# Altium footprint library Miner-8Chips.PcbLib: 43 footprints (part 1 of 3)
Each footprint in its own frame and in the unit in brackets; x right, y up, seen from the top. Pads: shape width x height; smd on the part's side, far side on the other; paste and mask are expansions set on the pad; w line width, h text height; cw(c..) or ccw(c..) is an arc to the next point about the centre after c.
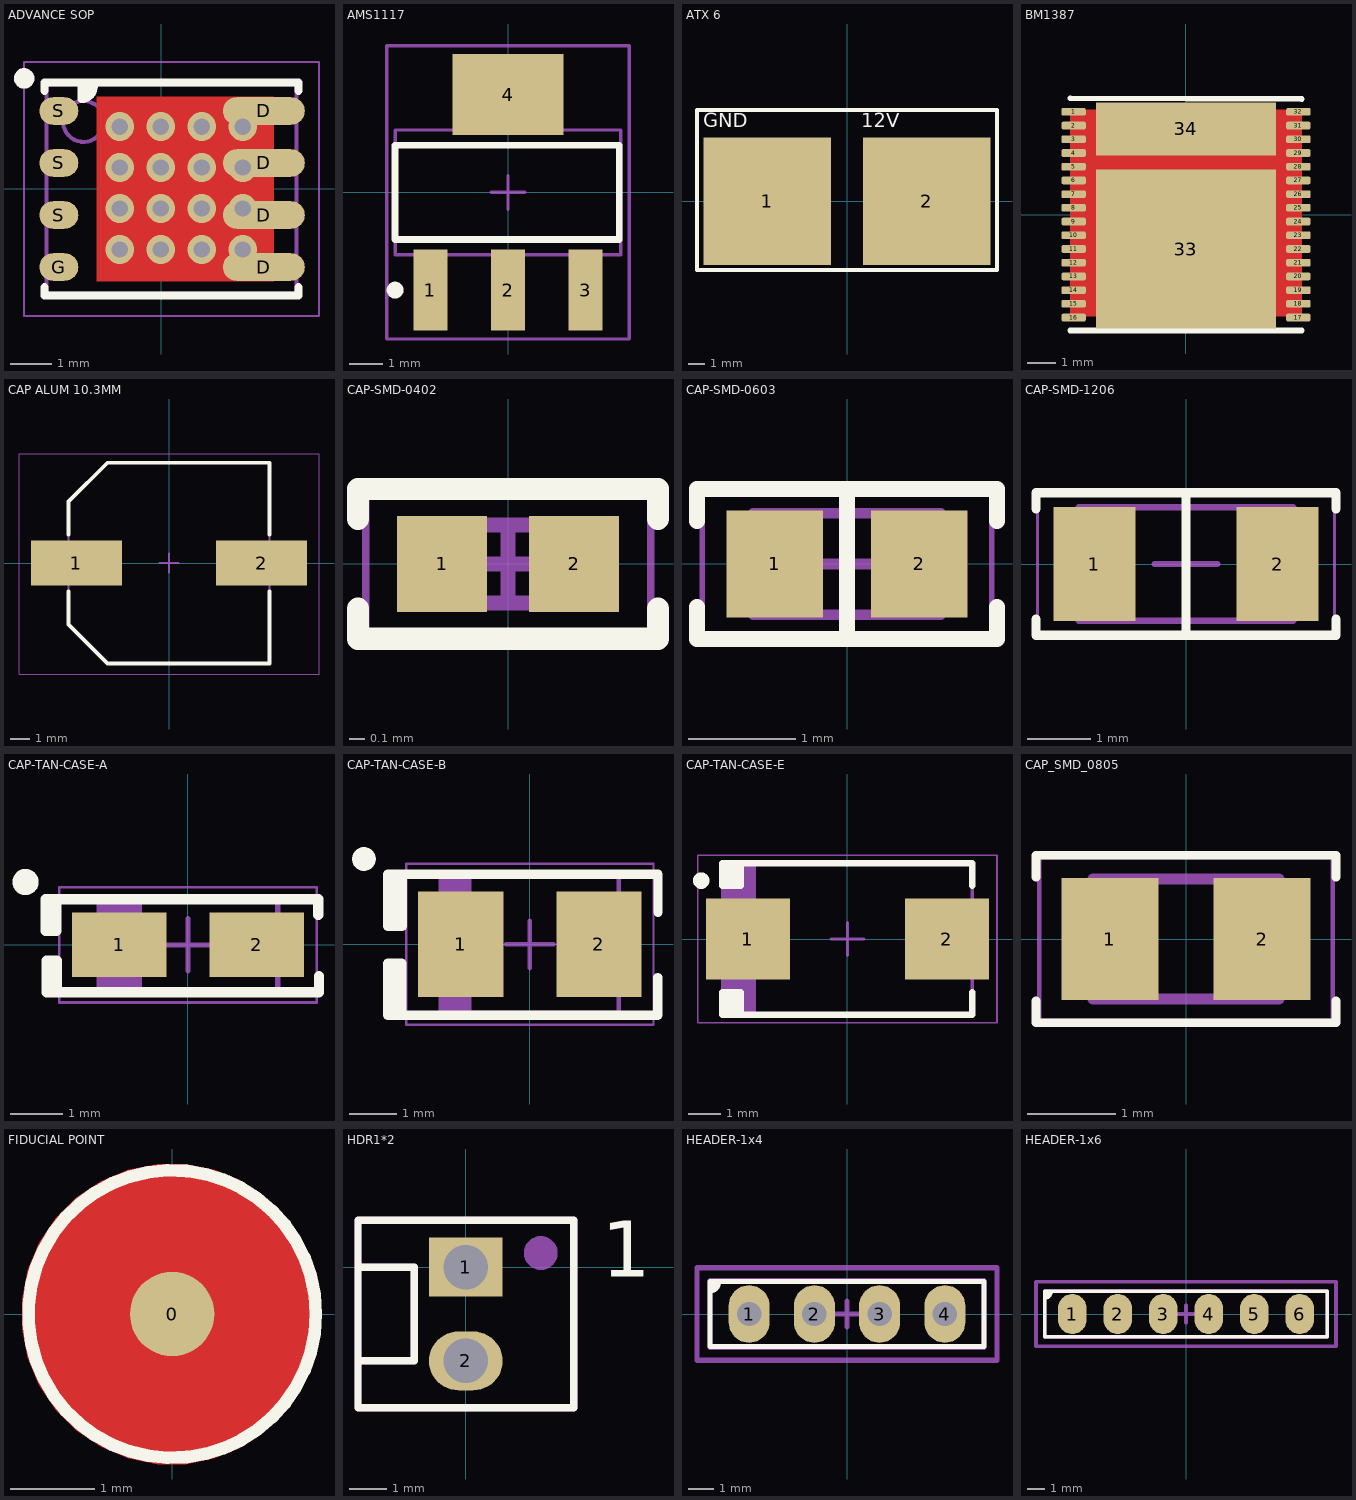
[diagram p0: the footprints below, top view; thin cyan lines are the x and y axes]

## ADVANCE SOP [mm]
pads (8):
  oval 2x0.675 smd: D(2.503,-1.905) D(2.503,-0.635) D(2.503,0.635) D(2.503,1.905)
  oval 0.95x0.675 smd: G(-2.503,-1.905) S(-2.503,-0.635) S(-2.503,0.635) S(-2.503,1.905)
via -1.016,-1.476 diameter 0.7 hole 0.4
via -0.016,-1.476 diameter 0.7 hole 0.4
via 0.984,-1.476 diameter 0.7 hole 0.4
via 1.984,-1.476 diameter 0.7 hole 0.4
via -1.016,-0.476 diameter 0.7 hole 0.4
via -0.016,-0.476 diameter 0.7 hole 0.4
via 0.984,-0.476 diameter 0.7 hole 0.4
via 1.984,-0.476 diameter 0.7 hole 0.4
via -1.016,0.524 diameter 0.7 hole 0.4
via -0.016,0.524 diameter 0.7 hole 0.4
via 0.984,0.524 diameter 0.7 hole 0.4
via 1.984,0.524 diameter 0.7 hole 0.4
via -1.016,1.524 diameter 0.7 hole 0.4
via -0.016,1.524 diameter 0.7 hole 0.4
via 0.984,1.524 diameter 0.7 hole 0.4
via 1.984,1.524 diameter 0.7 hole 0.4
Top Layer:
  region: -1.575,2.25 2.75,2.25 2.75,-2.25 -1.575,-2.25
Top Overlay:
  circle w0.25: c-3.35,2.7 r0.125
  region: -1.95,2.6 -1.95,2.2 -1.891,2.2 -1.78,2.246 -1.696,2.33 -1.65,2.44 -1.65,2.5 -1.65,2.6
  lines w0.2: -2.85,-2.4 -2.85,-2.6 3.35,-2.6 3.35,-2.4 ; -2.85,2.4 -2.85,2.6 3.35,2.6 3.35,2.4 ; -1.95,2.6 -1.95,2.2 ccw(c-1.95,2.5) -1.65,2.5 -1.65,2.6
Mechanical 13:
  circle w0.1: c-1.9,1.65 r0.5
  lines w0.1: -2.8,-2.55 -2.8,2.55 3.3,2.55 3.3,-2.55 -2.8,-2.55
Mechanical 15:
  lines w0.05: -3.35,-3.1 -3.35,3.1 3.85,3.1 3.85,-3.1 -3.35,-3.1
  lines w0.1: -0.25,0 0.75,0 ; 0.25,-0.5 0.25,0.5
3D body: height 1.05, standoff 0.01, extent -2.8,-2.55 3.3,2.55

## AMS1117 [mm]
pads (4):
  rect 1x2.4 smd: 1(-2.3,-2.9) 2(0,-2.9) 3(2.3,-2.9)
  rect 3.3x2.4 smd: 4(0,2.9)
Top Overlay:
  circle w0.25: c-3.35,-2.9 r0.125
  lines w0.2: -3.35,-1.4 3.302,-1.4 3.302,1.4 -3.35,1.4 -3.35,-1.4
Mechanical 13:
  lines w0.1: -3.35,-1.85 3.35,-1.85 3.35,1.85 -3.35,1.85 -3.35,-1.85
Mechanical 15:
  lines w0.1: -0.5,0 0.5,0 ; 0,-0.5 0,0.5 ; -3.6,-4.35 3.6,-4.35 3.6,4.35 -3.6,4.35 -3.6,-4.35
3D body "TO-223.STEP": height 1.64, standoff -0.04, extent -3.242,-3.49 3.242,3.49

## ATX 6 [mm]
pads (2):
  rect 8x8 smd: 1(-5,0) 2(5,0)
Top Overlay:
  lines w0.254: -9.398,-4.318 9.398,-4.318 9.398,5.715 -9.398,5.715 -9.398,-4.318
  text "12V" at 0.889,4.318 h1.52
  text "GND" at -9.017,4.335 h1.52

## BM1387 [mm]
pads (34):
  rrect50% 0.86x0.27 smd: 1(-3.935,3.6) 2(-3.935,3.12) 3(-3.935,2.64) 4(-3.935,2.16) 5(-3.935,1.68) 6(-3.935,1.2) 7(-3.935,0.72) 8(-3.935,0.24) 9(-3.935,-0.24) 10(-3.935,-0.72) 11(-3.935,-1.2) 12(-3.935,-1.68) 13(-3.935,-2.16) 14(-3.935,-2.64) 15(-3.935,-3.12) 16(-3.935,-3.6) 17(3.935,-3.6) 18(3.935,-3.12) 19(3.935,-2.64) 20(3.935,-2.16) 21(3.935,-1.68) 22(3.935,-1.2) 23(3.935,-0.72) 24(3.935,-0.24) 25(3.935,0.24) 26(3.935,0.72) 27(3.935,1.2) 28(3.935,1.68) 29(3.935,2.16) 30(3.935,2.64) 31(3.935,3.12) 32(3.935,3.6)
  rect 6.3x5.55 smd: 33(0,-1.2)
  rect 6.3x1.85 smd: 34(0,3)
Top Layer:
  pour cut-out: -4.05,3.697 -4.05,-3.556 4.05,-3.556 4.05,3.669
Top Overlay:
  lines w0.2: -4.05,-4.05 4.05,-4.05 ; -4.05,4.078 4.05,4.05
3D body: height 0.2, standoff 0, extent -4.063,-4.113 4.091,4.142

## CAP ALUM 10.3MM [mm] "Aluminum Electrolytic Capacitor, Body 10.30x10.30x10.50mm, IPC Low Density"
height 10.5
pads (2):
  rect 4.65x2.3 smd: 1(-4.75,0) 2(4.75,0)
Top Overlay:
  lines w0.2: -5.15,-1.45 -5.15,-3.15 -3.15,-5.15 5.15,-5.15 5.15,-1.45 ; -5.15,1.45 -5.15,3.15 -3.15,5.15 5.15,5.15 5.15,1.45
Mechanical 13:
  lines w0.1: -5.15,-3.15 -5.15,3.15 -3.15,5.15 5.15,5.15 5.15,-5.15 -3.15,-5.15 -5.15,-3.15
Mechanical 15:
  lines w0.05: -7.7,-5.7 7.7,-5.7 7.7,5.6 -7.7,5.6 -7.7,-5.7
  lines w0.1: -0.5,0 0.5,0 ; 0,-0.5 0,0.5
3D body "CAP ALUM 10_3mm.STEP": height 10.5, standoff 0, extent -5.8,-5.15 5.8,5.15

## CAP-SMD-0402 [mm]
pads (2):
  rect 0.6x0.64 smd: 1(-0.44,0) 2(0.44,0)
Top Overlay:
  lines w0.15: -1,-0.3 -1,-0.5 1,-0.5 1,-0.3 ; -1,0.3 -1,0.5 1,0.5 1,0.3
Mechanical 13:
  lines w0.1: -0.515,-0.26 0.515,-0.26 0.515,0.26 -0.515,0.26 -0.515,-0.26
Mechanical 15:
  lines w0.05: -0.95,-0.5 0.95,-0.5 0.95,0.5 -0.95,0.5 -0.95,-0.5
  lines w0.1: -0.26,0 0.26,0 ; 0,-0.26 0,0.26
3D body "0402 cap.STEP": height 0.52, standoff 0, extent -0.5,-0.262 0.5,0.262

## CAP-SMD-0603 [mm]
pads (2):
  rect 0.9x1 smd: 1(-0.675,0) 2(0.675,0)
Top Overlay:
  lines w0.15: -1.4,-0.4 -1.4,-0.7 1.4,-0.7 1.4,-0.4 ; -1.4,0.4 -1.4,0.7 1.4,0.7 1.4,0.4 ; 0,-0.7 0,0.7
Mechanical 13:
  lines w0.1: -0.875,-0.475 -0.875,0.475 0.875,0.475 0.875,-0.475 -0.875,-0.475
Mechanical 15:
  lines w0.05: -1.35,-0.75 -1.35,0.75 1.35,0.75 1.35,-0.75 -1.35,-0.75
  lines w0.1: -0.475,0 0.475,0 ; 0,-0.475 0,0.475
3D body "0603 cap.STEP": height 0.82, standoff 0, extent -0.8,-0.412 0.8,0.412

## CAP-SMD-1206 [mm]
pads (2):
  rect 1.3x1.8 smd: 1(-1.45,0) 2(1.45,0)
Top Overlay:
  lines w0.15: -2.375,-0.875 -2.375,-1.125 2.375,-1.125 2.375,-0.875 ; -2.375,0.875 -2.375,1.125 2.375,1.125 2.375,0.875 ; 0,-1.125 0,1.125
Mechanical 13:
  lines w0.1: -1.7,-0.9 -1.7,0.9 1.7,0.9 1.7,-0.9 -1.7,-0.9
Mechanical 15:
  lines w0.05: -2.35,-1.15 -2.35,1.15 2.35,1.15 2.35,-1.15 -2.35,-1.15
  lines w0.1: -0.5,0 0.5,0 ; 0,-0.5 0,0.5
3D body "1206 cap.STEP": height 1.62, standoff 0, extent -1.6,-0.812 1.6,0.812

## CAP-TAN-CASE-A [mm]
pads (2):
  rect 1.8x1.23 smd: 1(-1.31,0) 2(1.31,0)
Top Overlay:
  circle w0.25: c-3.1,1.2 r0.125
  rectangle: -2.717,0.273 -2.567,0.873
  rectangle: -2.7,-0.9 -2.55,-0.3
  lines w0.2: -2.517,0.873 -2.517,0.273 -2.717,0.273 -2.717,0.873 2.483,0.873 2.483,0.573 ; -2.5,-0.9 -2.5,-0.3 -2.7,-0.3 -2.7,-0.9 2.5,-0.9 2.5,-0.6
Mechanical 13:
  rectangle: -1.715,-0.85 -0.875,0.85
  lines w0.1: -1.7,-0.85 -1.7,0.85 1.715,0.85 1.715,-0.85 -1.7,-0.85
Mechanical 15:
  lines w0.05: -2.46,-1.1 2.46,-1.1 2.46,1.1 -2.46,1.1 -2.46,-1.1
  lines w0.1: -0.5,0 0.5,0 ; 0,-0.5 0,0.5
3D body "CAP TANT - 1206 - 1.7MM.step": height 1.7, standoff 0, extent -1.715,-0.85 1.715,0.85

## CAP-TAN-CASE-B [mm]
pads (2):
  rect 1.8x2.23 smd: 1(-1.46,0) 2(1.46,0)
Top Overlay:
  circle w0.25: c-3.5,1.8 r0.125
  region: -2.995,0.38 -2.995,1.48 -2.695,1.48 -2.695,0.38
  region: -3,-0.4 -3,-1.5 -2.7,-1.5 -2.7,-0.4
  lines w0.2: 2.7,-0.7 2.7,-1.5 -2.7,-1.5 ; 2.705,0.68 2.705,1.48 -2.695,1.48 ; -2.7,-1.5 -3,-1.5 -3,-0.4 -2.7,-0.4 -2.7,-1.5 ; -2.695,1.48 -2.995,1.48 -2.995,0.38 -2.695,0.38 -2.695,1.48
Mechanical 13:
  rectangle: -1.875,-1.45 -1.225,1.45
  lines w0.1: -1.875,-1.45 -1.875,1.45 1.875,1.45 1.875,-1.45 -1.875,-1.45
Mechanical 15:
  lines w0.05: -2.61,-1.7 -2.61,1.7 2.61,1.7 2.61,-1.7 -2.61,-1.7
  lines w0.1: -0.5,0 0.5,0 ; 0,-0.5 0,0.5
3D body "CAP TANT - 1411 - 2.0MM.step": height 2, standoff 0, extent -1.865,-1.45 1.865,1.45

## CAP-TAN-CASE-E [mm]
pads (2):
  rect 2.55x2.45 smd: 1(-3.025,0) 2(3.025,0)
Top Overlay:
  circle w0.25: c-4.45,1.775 r0.125
  rectangle: -3.8,1.625 -3.25,2.3
  rectangle: -3.8,-2.3 -3.25,-1.625
  lines w0.2: -3.25,-2.3 -3.25,-1.625 -3.8,-1.625 -3.8,-2.3 3.8,-2.3 3.8,-1.625 ; -3.25,2.3 -3.25,1.625 -3.8,1.625 -3.8,2.3 3.8,2.3 3.8,1.625
Mechanical 13:
  rectangle: -3.8,-2.3 -2.778,2.3
  lines w0.1: -3.8,-2.3 3.8,-2.3 3.8,2.3 -3.8,2.3 -3.8,-2.3
Mechanical 15:
  lines w0.05: -4.55,-2.55 4.55,-2.55 4.55,2.55 -4.55,2.55 -4.55,-2.55
  lines w0.1: -0.5,0 0.5,0 ; 0,-0.5 0,0.5
3D body "User Library-Case Code KEMET V.STEP": height 2, standoff 0, extent -3.81,-2.3 3.79,2.3

## CAP_SMD_0805 [mm]
pads (2):
  rect 1.1x1.38 smd: 1(-0.863,0) 2(0.863,0)
Top Overlay:
  lines w0.1: -1.7,-0.7 -1.7,-0.95 1.7,-0.95 1.7,-0.7 ; -1.7,0.7 -1.7,0.95 1.7,0.95 1.7,0.7
Mechanical 13:
  lines w0.127: -1.05,-0.68 -1.05,0.68 1.05,0.68 1.05,-0.68 -1.05,-0.68
Mechanical 15:
  lines w0.05: -1.665,-0.925 -1.665,0.925 1.665,0.925 1.665,-0.925 -1.665,-0.925
3D body "CL21A226MQQNNNG.STEP": height 1.22, standoff -0.03, extent -1,-0.675 1,0.675

## FIDUCIAL POINT [mm]
pads (1):
  round 1 smd mask+1: 0(0,0)
Top Layer:
  circle w0.15: c0,0 r1.571
  pour cut-out: 0,1.778 -0.175,1.778 -0.519,1.71 -0.842,1.576 -1.133,1.381 -1.381,1.133 -1.576,0.842 -1.71,0.519 -1.778,0.175 -1.778,0 -1.778,-0.175 -1.71,-0.519 -1.576,-0.842 -1.381,-1.133 -1.133,-1.381 -0.842,-1.576 -0.519,-1.71 -0.175,-1.778 0,-1.778 0.168,-1.778 0.497,-1.713 0.807,-1.584 1.086,-1.398 1.323,-1.16 1.51,-0.881 1.638,-0.571 1.704,-0.242 1.704,-0.074 1.704,0.074 1.704,0.242 1.638,0.571 1.51,0.881 1.323,1.16 1.086,1.398 0.807,1.584 0.497,1.713 0.168,1.778
Top Overlay:
  circle w0.15: c0,0 r1.704

## HDR1*2 [mm]
pads (2):
  rect 2x1.6 hole 1.2: 1(0,0)
  oval 2x1.6 hole 1.2: 2(0,-2.54)
Top Overlay:
  lines w0.2: -2.921,-2.54 -1.397,-2.54 -1.397,0 -2.921,0 ; -2.921,-3.81 2.921,-3.81 2.921,1.27 -2.921,1.27 -2.921,-3.81
  text "1" at 3.683,-0.254 h1.52
Mechanical 29:
  circle w0.508: c2.032,0.381 r0.203
  lines w0.2: -2.921,-2.54 -1.397,-2.54 -1.397,0 -2.921,0 ; -2.921,-3.81 -2.921,1.27 2.921,1.27 2.921,-3.81 -2.921,-3.81
  text "'.Designator'" at -0.889,-1.905 h1.2
3D body "User Library-JST-XH-2_5mm-2.step": height 5.95, standoff -3.35, extent -7.513,-4.953 0.127,2.547

## HEADER-1x4 [mm]
pads (4):
  oval 1.6x2.25 hole 0.95: 1(-3.81,0) 2(-1.27,0) 3(1.27,0) 4(3.81,0)
Top Overlay:
  region: -5.34,1.27 -5,1.27 -5,1.1 -5.2,0.9 -5.34,0.9
  lines w0.2: -5.34,0.9 ccw(c-5.34,1.24) -5,1.24 -5,1.27 ; -5.34,-1.27 5.34,-1.27 5.34,1.27 -5.34,1.27 -5.34,-1.27
Mechanical 13:
  lines w0.2: -5.34,-1.3 -5.34,1.3 5.34,1.3 5.34,-1.3 -5.34,-1.3
Mechanical 15:
  lines w0.2: -0.5,0 0.5,0 ; 0,-0.5 0,0.5 ; -5.84,-1.8 5.84,-1.8 5.84,1.8 -5.84,1.8 -5.84,-1.8
3D body "Samtec-SSW-104-03-T-S.STEP": height 8.51, standoff -10.01, extent -5.334,-1.206 5.334,1.207

## HEADER-1x6 [mm]
pads (6):
  oval 1.6x2.25 smd: 1(-6.35,0) 2(-3.81,0) 3(-1.27,0) 4(1.27,0) 5(3.81,0) 6(6.35,0)
Top Overlay:
  region: -7.88,1.27 -7.54,1.27 -7.54,1.1 -7.74,0.9 -7.88,0.9
  lines w0.2: -7.88,0.9 ccw(c-7.88,1.24) -7.54,1.24 -7.54,1.27 ; -7.88,-1.27 -7.88,1.27 7.88,1.27 7.88,-1.27 -7.88,-1.27
Mechanical 13:
  lines w0.2: -7.88,-1.3 7.88,-1.3 7.88,1.3 -7.88,1.3 -7.88,-1.3
Mechanical 15:
  lines w0.2: -0.5,0 0.5,0 ; 0,-0.5 0,0.5 ; -8.38,-1.8 -8.38,1.8 8.38,1.8 8.38,-1.8 -8.38,-1.8
3D body "HEADER6PFEM.stp": height 1.2, standoff -1.2, extent -8.05,-1.213 8.05,10.287